# Altium schematic symbol library SamacSys.SchLib: 14 symbols
Pins are listed as number, name and electrical type; pins without a type are passive.

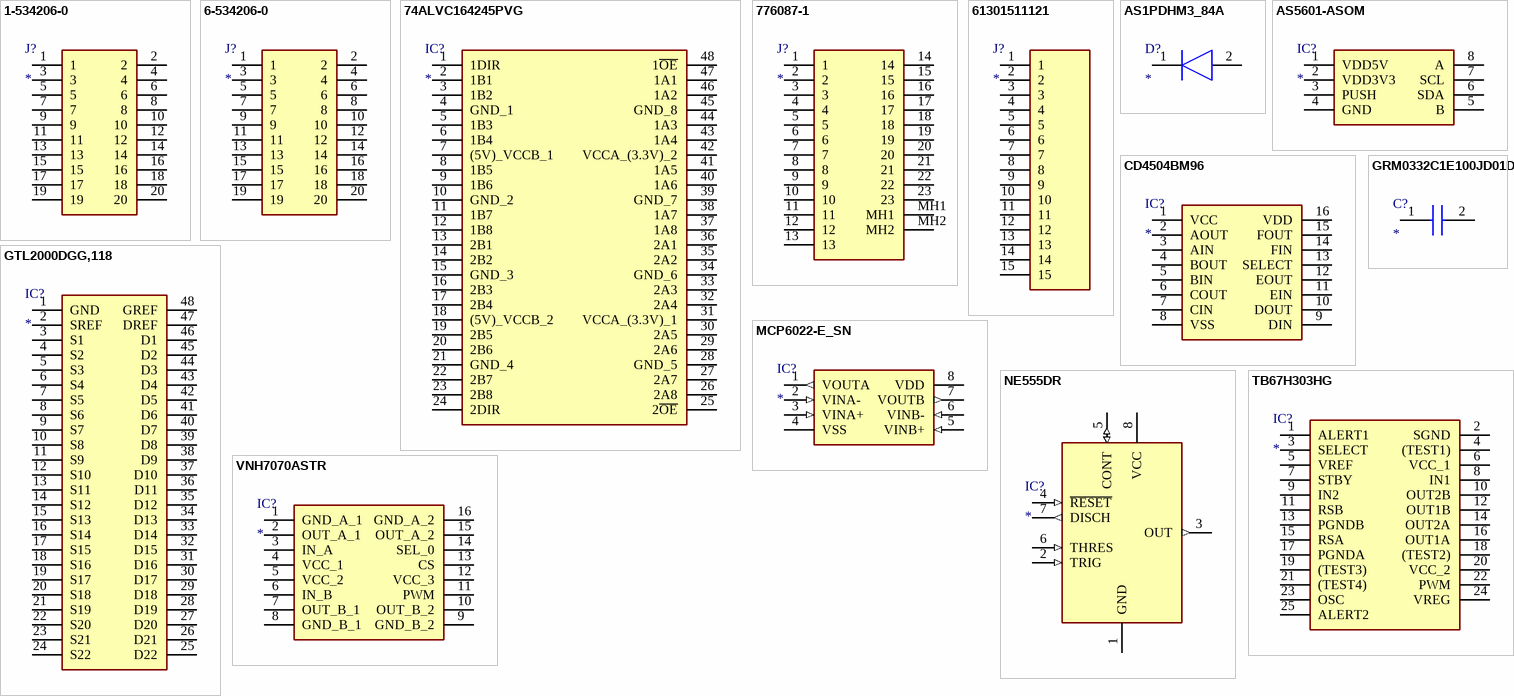
[diagram p0: symbols 1-534206-0 to VNH7070ASTR]

## 1-534206-0
designator J?
Connector; Manufacturer_Name: TE Connectivity; Manufacturer_Part_Number: 1-534206-0; Allied_Number: 70086662; Datasheet Link: https://www.te.com/commerce/DocumentDelivery/DDEController?Action=showdoc&DocId=Customer+Drawing%7F534206%7FR7%7Fpdf%7FEnglish%7FENG_CD_534206_R7.pdf%7F1-534206-0; Height: 8.64mm; Mouser Part Number: 571-15342060; Mouser Price/Stock: https://www.mouser.com/Search/Refine.aspx?Keyword=571-15342060; RS Part Number: 8639031; RS Price/Stock: http://uk.rs-online.com/web/p/products/8639031; Allied Price/Stock: https://www.alliedelec.com/teconnectivity-1-534206-0/70086662/
footprint 15342060
pins: 1, 2, 3, 4, 5, 6, 7, 8, 9, 10, 11, 12, 13, 14, 15, 16, 17, 18, 19, 20

## 6-534206-0
designator J?
Connector; Manufacturer_Name: TE Connectivity; Manufacturer_Part_Number: 6-534206-0; Allied_Number: 70042958; Datasheet Link: https://www.te.com/commerce/DocumentDelivery/DDEController?Action=showdoc&DocId=Customer+Drawing%7F534206%7FR7%7Fpdf%7FEnglish%7FENG_CD_534206_R7.pdf%7F6-534206-0; Height: 8.64mm; Mouser Part Number: 571-6-534206-0; Mouser Price/Stock: https://www.mouser.com/Search/Refine.aspx?Keyword=571-6-534206-0; RS Part Number: 6803445P; RS Price/Stock: http://uk.rs-online.com/web/p/products/6803445P; Allied Price/Stock: https://www.alliedelec.com/teconnectivity-6-534206-0/70042958/
footprint SHDR20W69P254_2X10_2540X503X864P
pins: 1, 2, 3, 4, 5, 6, 7, 8, 9, 10, 11, 12, 13, 14, 15, 16, 17, 18, 19, 20

## 74ALVC164245PVG
designator IC?
Integrated Circuit; Manufacturer_Name: IDT; Manufacturer_Part_Number: 74ALVC164245PVG; Datasheet Link: https://www.idt.com/document/dst/74alvc164245-datasheet; Height: 2.794mm; Mouser Part Number: 972-74ALVC164245PVG; Mouser Price/Stock: https://www.mouser.com/Search/Refine.aspx?Keyword=972-74ALVC164245PVG
footprint SOP64P1035X279-48N
pins: 1 1DIR, 2 1B1, 3 1B2, 4 GND_1, 5 1B3, 6 1B4, 7 (5V)_VCCB_1, 8 1B5, 9 1B6, 10 GND_2, 11 1B7, 12 1B8, 13 2B1, 14 2B2, 15 GND_3, 16 2B3, 17 2B4, 18 (5V)_VCCB_2, 19 2B5, 20 2B6, 21 GND_4, 22 2B7, 23 2B8, 24 2DIR, 25 2~{OE}, 26 2A8, 27 2A7, 28 GND_5, 29 2A6, 30 2A5, 31 VCCA_(3.3V)_1, 32 2A4, 33 2A3, 34 GND_6, 35 2A2, 36 2A1, 37 1A8, 38 1A7, 39 GND_7, 40 1A6, 41 1A5, 42 VCCA_(3.3V)_2, 43 1A4, 44 1A3, 45 GND_8, 46 1A2, 47 1A1, 48 1~{OE}

## 776087-1
designator J?
Connector; Manufacturer_Name: TE Connectivity; Manufacturer_Part_Number: 776087-1; Description: TE Connectivity AMPSEAL; Allied_Number: 70288175; Datasheet Link: https://componentsearchengine.com/Datasheets/1/776087-1.pdf; Height: 32.1mm; Mouser Part Number: 571-776087-1; Mouser Price/Stock: https://www.mouser.com/Search/Refine.aspx?Keyword=571-776087-1; RS Part Number: 7181471P; RS Price/Stock: http://uk.rs-online.com/web/p/products/7181471P; Allied Price/Stock: https://www.alliedelec.com/te-connectivity-776087-1/70288175/
footprint 7760871
pins: 1, 2, 3, 4, 5, 6, 7, 8, 9, 10, 11, 12, 13, 14, 15, 16, 17, 18, 19, 20, 21, 22, 23, MH1, MH2

## 61301511121
designator J?
Connector; Manufacturer_Name: Wurth Elektronik; Manufacturer_Part_Number: 61301511121; Datasheet Link: http://docs-emea.rs-online.com/webdocs/1346/0900766b81346518.pdf; Height: 8.54mm; Mouser Part Number: 710-61301511121; Mouser Price/Stock: https://www.mouser.com/Search/Refine.aspx?Keyword=710-61301511121; RS Part Number: 8281623P; RS Price/Stock: http://uk.rs-online.com/web/p/products/8281623P
footprint HDRV15W95P0X254_1X15_3810X254X854P
pins: 1, 2, 3, 4, 5, 6, 7, 8, 9, 10, 11, 12, 13, 14, 15

## AS1PDHM3_84A
designator D?
Diode; Manufacturer_Name: Vishay; Manufacturer_Part_Number: AS1PDHM3/84A; Datasheet Link: https://www.vishay.com/docs/89290/as1pm.pdf; Mouser Part Number: 625-AS1PDHM3/84A; Mouser Price/Stock: https://www.mouser.com/Search/Refine.aspx?Keyword=625-AS1PDHM3%2F84A; RS Part Number: 8151042; RS Price/Stock: https://uk.rs-online.com/web/p/products/8151042
footprint DO-220AA
pins: 1 K, 2 A

## AS5601-ASOM
designator IC?
Integrated Circuit; Manufacturer_Name: ams; Manufacturer_Part_Number: AS5601-ASOM; Datasheet Link: http://ams.com/eng/content/download/659003/1738497/343455.pdf; Height: 1.75mm; Mouser Part Number: 985-AS5601-ASOM; Mouser Price/Stock: https://www.mouser.com/Search/Refine.aspx?Keyword=985-AS5601-ASOM; RS Part Number: 1024168P; RS Price/Stock: http://uk.rs-online.com/web/p/products/1024168P
footprint SOIC127P600X175-8N
pins: 1 VDD5V (power), 2 VDD3V3 (power), 3 PUSH, 4 GND (power), 5 B, 6 SDA, 7 SCL, 8 A

## CD4504BM96
designator IC?
Integrated Circuit; Manufacturer_Name: Texas Instruments; Manufacturer_Part_Number: CD4504BM96; Datasheet Link: http://www.ti.com/lit/gpn/cd4504b; Height: 1.75mm; Mouser Part Number: 595-CD4504BM96; Mouser Price/Stock: https://www.mouser.com/Search/Refine.aspx?Keyword=595-CD4504BM96; RS Part Number: 6626875P; RS Price/Stock: http://uk.rs-online.com/web/p/products/6626875P
footprint SOIC127P600X175-16N
pins: 1 VCC, 2 AOUT, 3 AIN, 4 BOUT, 5 BIN, 6 COUT, 7 CIN, 8 VSS, 9 DIN, 10 DOUT, 11 EIN, 12 EOUT, 13 SELECT, 14 FIN, 15 FOUT, 16 VDD

## GRM0332C1E100JD01D
designator C?
Capacitor; Manufacturer_Name: Murata Electronics; Manufacturer_Part_Number: GRM0332C1E100JD01D; Datasheet Link: http://www.murata.com/~/media/webrenewal/support/library/catalog/products/capacitor/mlcc/c02e.pdf; Height: 0.33mm; Mouser Part Number: 81-GRM0332C1E100JD01; Mouser Price/Stock: https://www.mouser.com/Search/Refine.aspx?Keyword=81-GRM0332C1E100JD01
footprint CAPC0603X33N
pins: 1, 2

## GTL2000DGG,118
designator IC?
Integrated Circuit; Manufacturer_Name: Nexperia; Manufacturer_Part_Number: GTL2000DGG,118; Datasheet Link: https://www.nxp.com/docs/en/data-sheet/GTL2000.pdf; Height: 1.2mm; Mouser Part Number: 771-GTL2000DGG118; Mouser Price/Stock: https://www.mouser.com/Search/Refine.aspx?Keyword=771-GTL2000DGG118
footprint SOP50P810X120-48N
pins: 1 GND, 2 SREF, 3 S1, 4 S2, 5 S3, 6 S4, 7 S5, 8 S6, 9 S7, 10 S8, 11 S9, 12 S10, 13 S11, 14 S12, 15 S13, 16 S14, 17 S15, 18 S16, 19 S17, 20 S18, 21 S19, 22 S20, 23 S21, 24 S22, 25 D22, 26 D21, 27 D20, 28 D19, 29 D18, 30 D17, 31 D16, 32 D15, 33 D14, 34 D13, 35 D12, 36 D11, 37 D10, 38 D9, 39 D8, 40 D7, 41 D6, 42 D5, 43 D4, 44 D3, 45 D2, 46 D1, 47 DREF, 48 GREF

## MCP6022-E_SN
designator IC?
Integrated Circuit; Manufacturer_Name: Microchip; Manufacturer_Part_Number: MCP6022-E/SN; Allied_Number: 70046166; Datasheet Link: http://ww1.microchip.com/downloads/en/DeviceDoc/21685d.pdf; Height: 1.75mm; Mouser Part Number: 579-MCP6022-E/SN; Mouser Price/Stock: https://www.mouser.com/Search/Refine.aspx?Keyword=579-MCP6022-E%2FSN; RS Part Number: 2508396144; RS Price/Stock: http://uk.rs-online.com/web/p/products/2508396144; Allied Price/Stock: http://www.alliedelec.com/microchip-technology-inc-mcp6022-e-sn/70046166/
footprint SOIC127P600X175-8N
pins: 1 VOUTA (out), 2 VINA- (in), 3 VINA+ (in), 4 VSS (power), 5 VINB+ (in), 6 VINB- (in), 7 VOUTB (out), 8 VDD (power)

## NE555DR
designator IC?
Integrated Circuit; Manufacturer_Name: Texas Instruments; Manufacturer_Part_Number: NE555DR; Datasheet Link: http://www.ti.com/lit/ds/symlink/ne555.pdf; Height: 1.75mm; Mouser Part Number: 595-NE555DR; Mouser Price/Stock: https://www.mouser.com/Search/Refine.aspx?Keyword=595-NE555DR; RS Part Number: 1218414; RS Price/Stock: http://uk.rs-online.com/web/p/products/1218414
footprint SOIC127P600X175-8N
pins: 1 GND (power), 2 TRIG (in), 3 OUT (out), 4 ~{RESET} (in), 5 CONT (io), 6 THRES (in), 7 DISCH (out), 8 VCC (power)

## TB67H303HG
designator IC?
Integrated Circuit; Manufacturer_Name: Toshiba; Manufacturer_Part_Number: TB67H303HG; Datasheet Link: http://toshiba.semicon-storage.com/info/docget.jsp?did=15071&prodName=TB67H303HG; Mouser Part Number: 757-TB67H303HG; Mouser Price/Stock: https://www.mouser.com/Search/Refine.aspx?Keyword=757-TB67H303HG
footprint HZIP25-P-1
pins: 1 ALERT1, 2 SGND, 3 SELECT, 4 (TEST1), 5 VREF, 6 VCC_1, 7 STBY, 8 IN1, 9 IN2, 10 OUT2B, 11 RSB, 12 OUT1B, 13 PGNDB, 14 OUT2A, 15 RSA, 16 OUT1A, 17 PGNDA, 18 (TEST2), 19 (TEST3), 20 VCC_2, 21 (TEST4), 22 PWM, 23 OSC, 24 VREG, 25 ALERT2

## VNH7070ASTR
designator IC?
Integrated Circuit; Manufacturer_Name: STMicroelectronics; Manufacturer_Part_Number: VNH7070ASTR; Datasheet Link: http://www.st.com/content/ccc/resource/technical/document/datasheet/08/97/0a/0c/cf/4b/41/40/DM00213876.pdf/files/DM00213876.pdf/jcr:content/translations/en.DM00213876.pdf; Height: 1.75mm; Mouser Part Number: 511-VNH7070ASTR; Mouser Price/Stock: https://www.mouser.com/Search/Refine.aspx?Keyword=511-VNH7070ASTR; RS Part Number: 1647017P; RS Price/Stock: http://uk.rs-online.com/web/p/products/1647017P
footprint SOIC127P600X175-16N
pins: 1 GND_A_1, 2 OUT_A_1, 3 IN_A, 4 VCC_1, 5 VCC_2, 6 IN_B, 7 OUT_B_1, 8 GND_B_1, 9 GND_B_2, 10 OUT_B_2, 11 PWM, 12 VCC_3, 13 CS, 14 SEL_0, 15 OUT_A_2, 16 GND_A_2